# Altium schematic symbol library 5000.SchLib: 1 symbol
Pins are listed as number, name and electrical type; pins without a type are passive.

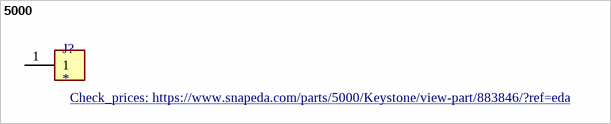
[diagram p0: symbol 5000]

## 5000
designator J?
High Pin Count, Backplane Connectors, Receptacle, Right Angle, Through Hole, 4 Row, 120 Positions, 0 Guide Pin, 2.54mm (0.100in) Pitch; MP: 5000; MF: Keystone; Package: Custom Package Ohmite; Availability: Good; Price: None; Purchase-URL: https://pricing.snapeda.com/search/part/5000/?ref=eda; SnapEDA_Link: https://www.snapeda.com/parts/5000/Keystone/view-part/883846/?ref=snap; Value: *; Check_prices: https://www.snapeda.com/parts/5000/Keystone/view-part/883846/?ref=eda
footprint KEYSTONE_5000
pins: 1